# EAGLE library part BLE112-N (library sf-bluegiga)
Bluetooth Low Energy single-mode module - Bluetooth 4.0, RF pins
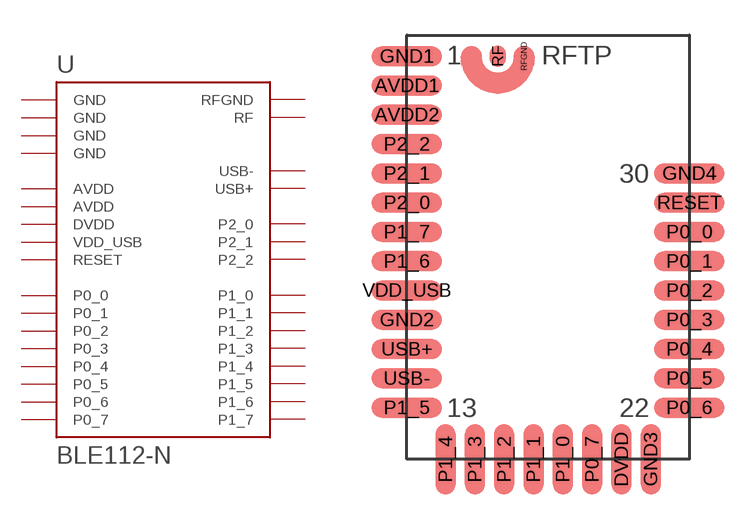
[diagram p5: symbol with the pads of BLE112-N; footprint BLE112-N]

Designator prefix U

## BLE112-N  [BLE112-N]
AVDD1  AVDD  pwr
AVDD2  AVDD  pwr
DVDD  DVDD  pwr
GND1  GND  pwr
GND2  GND  pwr
GND3  GND  pwr
GND4  GND  pwr
P0_0  P0_0
P0_1  P0_1
P0_2  P0_2
P0_3  P0_3
P0_4  P0_4
P0_5  P0_5
P0_6  P0_6
P0_7  P0_7
P1_0  P1_0
P1_1  P1_1
P1_2  P1_2
P1_3  P1_3
P1_4  P1_4
P1_5  P1_5
P1_6  P1_6
P1_7  P1_7
P2_0  P2_0
P2_1  P2_1
P2_2  P2_2
RESET  RESET  in
RF  RF
RFGND  RFGND
USB+  USB+
USB-  USB-
VDD_USB  VDD_USB  pwr

## Footprint BLE112-N (pad centres in mm)
Bluetooth Low Energy single-mode module - Bluetooth 4.0, RF pins
smd 3 x 0.85: AVDD1 -6.05,6.9; AVDD2 -6.05,5.65; GND1 -6.05,8.15; GND2 -6.05,-3.1; GND4 6,3.15; P0_0 6,0.65; P0_1 6,-0.6; P0_2 6,-1.85; P0_3 6,-3.1; P0_4 6,-4.35; P0_5 6,-5.6; P0_6 6,-6.85; P1_5 -6.05,-6.85; P1_6 -6.05,-0.6; P1_7 -6.05,0.65; P2_0 -6.05,1.9; P2_1 -6.05,3.15; P2_2 -6.05,4.4; RESET 6,1.9; USB+ -6.05,-4.35; USB- -6.05,-5.6; VDD_USB -6.05,-1.85
smd 0.85 x 3: DVDD 3.1,-9.05; GND3 4.35,-9.05; P0_7 1.85,-9.05; P1_0 0.6,-9.05; P1_1 -0.65,-9.05; P1_2 -1.9,-9.05; P1_3 -3.15,-9.05; P1_4 -4.4,-9.05
smd 0.7 x 0.9: RF -2.17,8.15
smd 0.9 x 0.9: RFGND -1.05,8.15